# Altium footprint library STM32L011G4U7.PcbLib: 3 footprints
Each footprint in its own frame and in the unit in brackets; x right, y up, seen from the top. Pads: shape width x height; smd on the part's side, far side on the other; paste and mask are expansions set on the pad; w line width, h text height; cw(c..) or ccw(c..) is an arc to the next point about the centre after c.
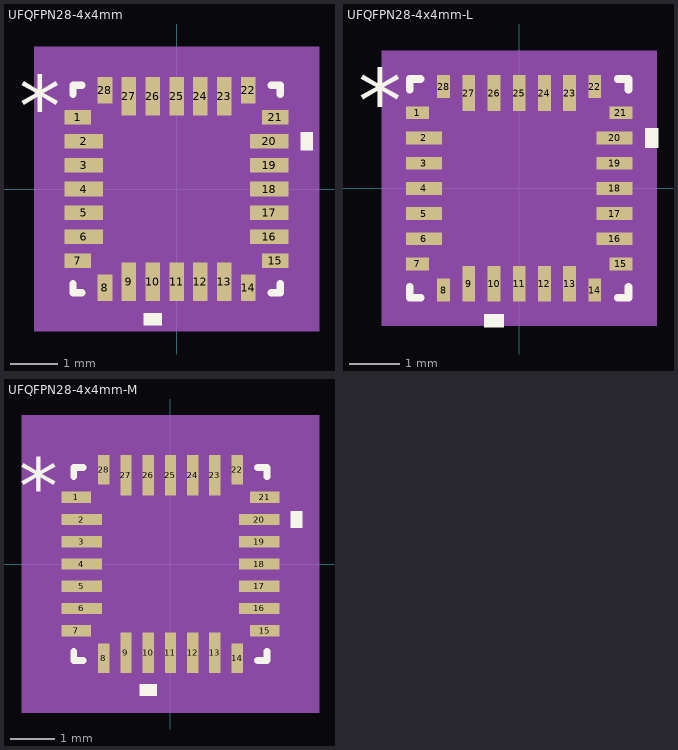
[diagram p0: the footprints below, top view; thin cyan lines are the x and y axes]

## UFQFPN28-4x4mm [mil]
pads (28):
  rect 22x12 smd: 1(-81.5,59.06) 7(-81.5,-59.06) 15(81.5,-59.06) 21(81.5,59.06)
  rect 32x12 smd paste+0 mask+0: 2(-76.5,39.37) 3(-76.5,19.68) 4(-76.5,0) 5(-76.5,-19.68) 6(-76.5,-39.37) 16(76.5,-39.37) 17(76.5,-19.68) 18(76.5,0) 19(76.5,19.68) 20(76.5,39.37)
  rect 12x22 smd: 8(-59.06,-81.5) 14(59.06,-81.5) 22(59.06,81.5) 28(-59.06,81.5)
  rect 12x32 smd paste+0 mask+0: 9(-39.37,-76.5) 10(-19.68,-76.5) 11(0,-76.5) 12(19.68,-76.5) 13(39.37,-76.5) 23(39.37,76.5) 24(19.68,76.5) 25(0,76.5) 26(-19.68,76.5) 27(-39.37,76.5)
Top Overlay:
  region: -12.19,-102.5 -27.18,-102.5 -27.18,-112.5 -12.19,-112.5
  region: 102.5,46.87 112.5,46.87 112.5,31.87 102.5,31.87
  lines w6: -85.5,-78.16 -85.5,-85.5 -78.16,-85.5 ; -85.5,78.16 -85.5,85.5 -78.16,85.5 ; 78.16,-85.5 85.5,-85.5 85.5,-78.16 ; 78.16,85.5 85.5,85.5 85.5,78.16
  text "*" at -130,43.9 h50
Mechanical 5:
  region: 117.5,-117.5 -117.5,-117.5 -117.5,117.5 117.5,117.5
Mechanical 13:
  lines w1: -80.5,30.5 -30.5,80.5 ; -80.5,-80.5 80.5,-80.5 ; -80.5,-80.5 -80.5,80.5 ; -80.5,-80.5 -80.5,-80.5 ; -80.5,-65.06 -80.5,-53.06 ; -80.5,-65.06 -80.5,-53.06 ; -80.5,-65.06 -80.5,-65.06 ; -80.5,-53.06 -80.5,-53.06 ; -80.5,-45.37 -80.5,-33.37 ; -80.5,-45.37 -80.5,-33.37 ; -80.5,-45.37 -80.5,-45.37 ; -80.5,-33.37 -80.5,-33.37 ; -80.5,-25.68 -80.5,-13.69 ; -80.5,-25.68 -80.5,-13.69 ; -80.5,-25.68 -80.5,-25.68 ; -80.5,-13.69 -80.5,-13.69 ; -80.5,-6 -80.5,6 ; -80.5,-6 -80.5,6 ; -80.5,-6 -80.5,-6 ; -80.5,6 -80.5,6 ; -80.5,13.69 -80.5,25.68 ; -80.5,13.69 -80.5,25.68 ; -80.5,13.69 -80.5,13.69 ; -80.5,25.68 -80.5,25.68 ; -80.5,33.37 -80.5,45.37 ; -80.5,33.37 -80.5,45.37 ; -80.5,33.37 -80.5,33.37 ; -80.5,45.37 -80.5,45.37 ; -80.5,53.06 -80.5,65.06 ; -80.5,53.06 -80.5,65.06 ; -80.5,53.06 -80.5,53.06 ; -80.5,65.06 -80.5,65.06 ; -80.5,80.5 80.5,80.5 ; -80.5,80.5 -80.5,80.5 ; -65.06,-80.5 -53.06,-80.5 ; -65.06,-80.5 -65.06,-80.5 ; -65.06,-80.5 -53.06,-80.5 ; -65.06,80.5 -53.06,80.5 ; -65.06,80.5 -53.06,80.5 ; -65.06,80.5 -65.06,80.5 ; -53.06,-80.5 -53.06,-80.5 ; -53.06,80.5 -53.06,80.5 ; -45.37,-80.5 -33.37,-80.5 ; -45.37,-80.5 -45.37,-80.5 ; -45.37,-80.5 -33.37,-80.5 ; -45.37,80.5 -33.37,80.5 ; -45.37,80.5 -33.37,80.5 ; -45.37,80.5 -45.37,80.5 ; -33.37,-80.5 -33.37,-80.5 ; -33.37,80.5 -33.37,80.5 ; -25.68,-80.5 -13.69,-80.5 ; -25.68,-80.5 -25.68,-80.5 ; -25.68,-80.5 -13.69,-80.5 ; -25.68,80.5 -13.69,80.5 ; -25.68,80.5 -13.69,80.5 ; -25.68,80.5 -25.68,80.5 ; -13.69,-80.5 -13.69,-80.5 ; -13.69,80.5 -13.69,80.5 ; -6,-80.5 6,-80.5 ; -6,-80.5 -6,-80.5 ; -6,-80.5 6,-80.5 ; -6,80.5 6,80.5 ; -6,80.5 6,80.5 ; -6,80.5 -6,80.5 ; 6,-80.5 6,-80.5 ; 6,80.5 6,80.5 ; 13.69,-80.5 25.68,-80.5 ; 13.69,-80.5 13.69,-80.5 ; 13.69,-80.5 25.68,-80.5 ; 13.69,80.5 25.68,80.5 ; 13.69,80.5 25.68,80.5 ; 13.69,80.5 13.69,80.5 ; 25.68,-80.5 25.68,-80.5 ; 25.68,80.5 25.68,80.5 ; 33.37,-80.5 45.37,-80.5 ; 33.37,-80.5 33.37,-80.5 ; 33.37,-80.5 45.37,-80.5 ; 33.37,80.5 45.37,80.5 ; 33.37,80.5 45.37,80.5 ; 33.37,80.5 33.37,80.5 ; 45.37,-80.5 45.37,-80.5 ; 45.37,80.5 45.37,80.5 ; 53.06,-80.5 65.06,-80.5 ; 53.06,-80.5 53.06,-80.5 ; 53.06,-80.5 65.06,-80.5 ; 53.06,80.5 65.06,80.5 ; 53.06,80.5 65.06,80.5 ; 53.06,80.5 53.06,80.5 ; 65.06,-80.5 65.06,-80.5 ; 65.06,80.5 65.06,80.5 ; 80.5,-80.5 80.5,-80.5 ; 80.5,-80.5 80.5,80.5 ; 80.5,-65.06 80.5,-53.06 ; 80.5,-65.06 80.5,-65.06 ; 80.5,-65.06 80.5,-53.06 ; 80.5,-53.06 80.5,-53.06 ; 80.5,-45.37 80.5,-33.37 ; 80.5,-45.37 80.5,-45.37 ; 80.5,-45.37 80.5,-33.37 ; 80.5,-33.37 80.5,-33.37 ; 80.5,-25.68 80.5,-13.69 ; 80.5,-25.68 80.5,-25.68 ; 80.5,-25.68 80.5,-13.69 ; 80.5,-13.69 80.5,-13.69 ; 80.5,-6 80.5,6 ; 80.5,-6 80.5,-6 ; 80.5,-6 80.5,6 ; 80.5,6 80.5,6 ; 80.5,13.69 80.5,25.68 ; 80.5,13.69 80.5,13.69 ; 80.5,13.69 80.5,25.68 ; 80.5,25.68 80.5,25.68 ; 80.5,33.37 80.5,45.37 ; 80.5,33.37 80.5,33.37 ; 80.5,33.37 80.5,45.37 ; 80.5,45.37 80.5,45.37 ; 80.5,53.06 80.5,65.06 ; 80.5,53.06 80.5,53.06 ; 80.5,53.06 80.5,65.06 ; 80.5,65.06 80.5,65.06 ; 80.5,80.5 80.5,80.5
  text "*" at -73,43.9 h50
Mechanical 15:
  region: -68.9,-90.5 -90.5,-90.5 -90.5,-68.9 -100.5,-68.9 -100.5,68.9 -90.5,68.9 -90.5,90.5 -68.9,90.5 -68.9,100.5 68.9,100.5 68.9,90.5 90.5,90.5 90.5,68.9 100.5,68.9 100.5,-68.9 90.5,-68.9 90.5,-90.5 68.9,-90.5 68.9,-100.5 -68.9,-100.5
  lines w6: -100.5,-68.9 -90.5,-68.9 -90.5,-90.5 -68.9,-90.5 -68.9,-100.5 68.9,-100.5 68.9,-90.5 90.5,-90.5 90.5,-68.9 100.5,-68.9 100.5,68.9 90.5,68.9 90.5,90.5 68.9,90.5 68.9,100.5 -68.9,100.5 -68.9,90.5 -90.5,90.5 -90.5,68.9 -100.5,68.9 -100.5,-68.9
3D body "UFQFPN28-4x4mm.step": height 24.09, standoff 0, extent -80.51,-80.51 80.51,80.51

## UFQFPN28-4x4mm-L [mil]
pads (28):
  rect 18x10 smd paste+0 mask+0: 1(-79.5,59.06) 7(-79.5,-59.06) 15(79.5,-59.06) 21(79.5,59.06)
  rect 28x10 smd paste+0 mask+0: 2(-74.5,39.37) 3(-74.5,19.68) 4(-74.5,0) 5(-74.5,-19.68) 6(-74.5,-39.37) 16(74.5,-39.37) 17(74.5,-19.68) 18(74.5,0) 19(74.5,19.68) 20(74.5,39.37)
  rect 10x18 smd paste+0 mask+0: 8(-59.06,-79.5) 14(59.06,-79.5) 22(59.06,79.5) 28(-59.06,79.5)
  rect 10x28 smd paste+0 mask+0: 9(-39.37,-74.5) 10(-19.68,-74.5) 11(0,-74.5) 12(19.68,-74.5) 13(39.37,-74.5) 23(39.37,74.5) 24(19.68,74.5) 25(0,74.5) 26(-19.68,74.5) 27(-39.37,74.5)
Top Overlay:
  region: -12.19,-98.5 -27.18,-98.5 -27.18,-108.5 -12.19,-108.5
  region: 98.5,46.87 108.5,46.87 108.5,31.87 98.5,31.87
  lines w6: -85.5,-77.16 -85.5,-85.5 -77.16,-85.5 ; -85.5,77.16 -85.5,85.5 -77.16,85.5 ; 77.16,-85.5 85.5,-85.5 85.5,-77.16 ; 77.16,85.5 85.5,85.5 85.5,77.16
  text "*" at -126,43.9 h50
Mechanical 5:
  region: 107.5,-107.5 -107.5,-107.5 -107.5,107.5 107.5,107.5
Mechanical 13:
  lines w1: -80.5,30.5 -30.5,80.5 ; -80.5,-80.5 80.5,-80.5 ; -80.5,-80.5 -80.5,80.5 ; -80.5,-80.5 -80.5,-80.5 ; -80.5,-65.06 -80.5,-53.06 ; -80.5,-65.06 -80.5,-53.06 ; -80.5,-65.06 -80.5,-65.06 ; -80.5,-53.06 -80.5,-53.06 ; -80.5,-45.37 -80.5,-33.37 ; -80.5,-45.37 -80.5,-33.37 ; -80.5,-45.37 -80.5,-45.37 ; -80.5,-33.37 -80.5,-33.37 ; -80.5,-25.68 -80.5,-13.69 ; -80.5,-25.68 -80.5,-13.69 ; -80.5,-25.68 -80.5,-25.68 ; -80.5,-13.69 -80.5,-13.69 ; -80.5,-6 -80.5,6 ; -80.5,-6 -80.5,6 ; -80.5,-6 -80.5,-6 ; -80.5,6 -80.5,6 ; -80.5,13.69 -80.5,25.68 ; -80.5,13.69 -80.5,25.68 ; -80.5,13.69 -80.5,13.69 ; -80.5,25.68 -80.5,25.68 ; -80.5,33.37 -80.5,45.37 ; -80.5,33.37 -80.5,45.37 ; -80.5,33.37 -80.5,33.37 ; -80.5,45.37 -80.5,45.37 ; -80.5,53.06 -80.5,65.06 ; -80.5,53.06 -80.5,65.06 ; -80.5,53.06 -80.5,53.06 ; -80.5,65.06 -80.5,65.06 ; -80.5,80.5 80.5,80.5 ; -80.5,80.5 -80.5,80.5 ; -65.06,-80.5 -53.06,-80.5 ; -65.06,-80.5 -65.06,-80.5 ; -65.06,-80.5 -53.06,-80.5 ; -65.06,80.5 -53.06,80.5 ; -65.06,80.5 -53.06,80.5 ; -65.06,80.5 -65.06,80.5 ; -53.06,-80.5 -53.06,-80.5 ; -53.06,80.5 -53.06,80.5 ; -45.37,-80.5 -33.37,-80.5 ; -45.37,-80.5 -45.37,-80.5 ; -45.37,-80.5 -33.37,-80.5 ; -45.37,80.5 -33.37,80.5 ; -45.37,80.5 -33.37,80.5 ; -45.37,80.5 -45.37,80.5 ; -33.37,-80.5 -33.37,-80.5 ; -33.37,80.5 -33.37,80.5 ; -25.68,-80.5 -13.69,-80.5 ; -25.68,-80.5 -25.68,-80.5 ; -25.68,-80.5 -13.69,-80.5 ; -25.68,80.5 -13.69,80.5 ; -25.68,80.5 -13.69,80.5 ; -25.68,80.5 -25.68,80.5 ; -13.69,-80.5 -13.69,-80.5 ; -13.69,80.5 -13.69,80.5 ; -6,-80.5 6,-80.5 ; -6,-80.5 -6,-80.5 ; -6,-80.5 6,-80.5 ; -6,80.5 6,80.5 ; -6,80.5 6,80.5 ; -6,80.5 -6,80.5 ; 6,-80.5 6,-80.5 ; 6,80.5 6,80.5 ; 13.69,-80.5 25.68,-80.5 ; 13.69,-80.5 13.69,-80.5 ; 13.69,-80.5 25.68,-80.5 ; 13.69,80.5 25.68,80.5 ; 13.69,80.5 25.68,80.5 ; 13.69,80.5 13.69,80.5 ; 25.68,-80.5 25.68,-80.5 ; 25.68,80.5 25.68,80.5 ; 33.37,-80.5 45.37,-80.5 ; 33.37,-80.5 33.37,-80.5 ; 33.37,-80.5 45.37,-80.5 ; 33.37,80.5 45.37,80.5 ; 33.37,80.5 45.37,80.5 ; 33.37,80.5 33.37,80.5 ; 45.37,-80.5 45.37,-80.5 ; 45.37,80.5 45.37,80.5 ; 53.06,-80.5 65.06,-80.5 ; 53.06,-80.5 53.06,-80.5 ; 53.06,-80.5 65.06,-80.5 ; 53.06,80.5 65.06,80.5 ; 53.06,80.5 65.06,80.5 ; 53.06,80.5 53.06,80.5 ; 65.06,-80.5 65.06,-80.5 ; 65.06,80.5 65.06,80.5 ; 80.5,-80.5 80.5,-80.5 ; 80.5,-80.5 80.5,80.5 ; 80.5,-65.06 80.5,-53.06 ; 80.5,-65.06 80.5,-65.06 ; 80.5,-65.06 80.5,-53.06 ; 80.5,-53.06 80.5,-53.06 ; 80.5,-45.37 80.5,-33.37 ; 80.5,-45.37 80.5,-45.37 ; 80.5,-45.37 80.5,-33.37 ; 80.5,-33.37 80.5,-33.37 ; 80.5,-25.68 80.5,-13.69 ; 80.5,-25.68 80.5,-25.68 ; 80.5,-25.68 80.5,-13.69 ; 80.5,-13.69 80.5,-13.69 ; 80.5,-6 80.5,6 ; 80.5,-6 80.5,-6 ; 80.5,-6 80.5,6 ; 80.5,6 80.5,6 ; 80.5,13.69 80.5,25.68 ; 80.5,13.69 80.5,13.69 ; 80.5,13.69 80.5,25.68 ; 80.5,25.68 80.5,25.68 ; 80.5,33.37 80.5,45.37 ; 80.5,33.37 80.5,33.37 ; 80.5,33.37 80.5,45.37 ; 80.5,45.37 80.5,45.37 ; 80.5,53.06 80.5,65.06 ; 80.5,53.06 80.5,53.06 ; 80.5,53.06 80.5,65.06 ; 80.5,65.06 80.5,65.06 ; 80.5,80.5 80.5,80.5
  text "*" at -73,43.9 h50
Mechanical 15:
  region: -68.9,-84.5 -84.5,-84.5 -84.5,-68.9 -92.5,-68.9 -92.5,68.9 -84.5,68.9 -84.5,84.5 -68.9,84.5 -68.9,92.5 68.9,92.5 68.9,84.5 84.5,84.5 84.5,68.9 92.5,68.9 92.5,-68.9 84.5,-68.9 84.5,-84.5 68.9,-84.5 68.9,-92.5 -68.9,-92.5
  lines w6: -92.5,-68.9 -84.5,-68.9 -84.5,-84.5 -68.9,-84.5 -68.9,-92.5 68.9,-92.5 68.9,-84.5 84.5,-84.5 84.5,-68.9 92.5,-68.9 92.5,68.9 84.5,68.9 84.5,84.5 68.9,84.5 68.9,92.5 -68.9,92.5 -68.9,84.5 -84.5,84.5 -84.5,68.9 -92.5,68.9 -92.5,-68.9
3D body "UFQFPN28-4x4mm.step": height 24.09, standoff 0, extent -80.51,-80.51 80.51,80.51

## UFQFPN28-4x4mm-M [mil]
pads (28):
  rect 26x10 smd paste+0 mask+0: 1(-83.5,59.06) 7(-83.5,-59.06) 15(83.5,-59.06) 21(83.5,59.06)
  rect 36x10 smd paste+0 mask+0: 2(-78.5,39.37) 3(-78.5,19.68) 4(-78.5,0) 5(-78.5,-19.68) 6(-78.5,-39.37) 16(78.5,-39.37) 17(78.5,-19.68) 18(78.5,0) 19(78.5,19.68) 20(78.5,39.37)
  rect 10x26 smd paste+0 mask+0: 8(-59.06,-83.5) 14(59.06,-83.5) 22(59.06,83.5) 28(-59.06,83.5)
  rect 10x36 smd paste+0 mask+0: 9(-39.37,-78.5) 10(-19.68,-78.5) 11(0,-78.5) 12(19.68,-78.5) 13(39.37,-78.5) 23(39.37,78.5) 24(19.68,78.5) 25(0,78.5) 26(-19.68,78.5) 27(-39.37,78.5)
Top Overlay:
  region: -12.19,-106.5 -27.18,-106.5 -27.18,-116.5 -12.19,-116.5
  region: 106.5,46.87 116.5,46.87 116.5,31.87 106.5,31.87
  lines w6: -85.5,-77.16 -85.5,-85.5 -77.16,-85.5 ; -85.5,77.16 -85.5,85.5 -77.16,85.5 ; 77.16,-85.5 85.5,-85.5 85.5,-77.16 ; 77.16,85.5 85.5,85.5 85.5,77.16
  text "*" at -134,43.9 h50
Mechanical 5:
  region: 131.5,-131.5 -131.5,-131.5 -131.5,131.5 131.5,131.5
Mechanical 13:
  lines w1: -80.5,30.5 -30.5,80.5 ; -80.5,-80.5 80.5,-80.5 ; -80.5,-80.5 -80.5,80.5 ; -80.5,-80.5 -80.5,-80.5 ; -80.5,-65.06 -80.5,-53.06 ; -80.5,-65.06 -80.5,-53.06 ; -80.5,-65.06 -80.5,-65.06 ; -80.5,-53.06 -80.5,-53.06 ; -80.5,-45.37 -80.5,-33.37 ; -80.5,-45.37 -80.5,-33.37 ; -80.5,-45.37 -80.5,-45.37 ; -80.5,-33.37 -80.5,-33.37 ; -80.5,-25.68 -80.5,-13.69 ; -80.5,-25.68 -80.5,-13.69 ; -80.5,-25.68 -80.5,-25.68 ; -80.5,-13.69 -80.5,-13.69 ; -80.5,-6 -80.5,6 ; -80.5,-6 -80.5,6 ; -80.5,-6 -80.5,-6 ; -80.5,6 -80.5,6 ; -80.5,13.69 -80.5,25.68 ; -80.5,13.69 -80.5,25.68 ; -80.5,13.69 -80.5,13.69 ; -80.5,25.68 -80.5,25.68 ; -80.5,33.37 -80.5,45.37 ; -80.5,33.37 -80.5,45.37 ; -80.5,33.37 -80.5,33.37 ; -80.5,45.37 -80.5,45.37 ; -80.5,53.06 -80.5,65.06 ; -80.5,53.06 -80.5,65.06 ; -80.5,53.06 -80.5,53.06 ; -80.5,65.06 -80.5,65.06 ; -80.5,80.5 80.5,80.5 ; -80.5,80.5 -80.5,80.5 ; -65.06,-80.5 -53.06,-80.5 ; -65.06,-80.5 -65.06,-80.5 ; -65.06,-80.5 -53.06,-80.5 ; -65.06,80.5 -53.06,80.5 ; -65.06,80.5 -53.06,80.5 ; -65.06,80.5 -65.06,80.5 ; -53.06,-80.5 -53.06,-80.5 ; -53.06,80.5 -53.06,80.5 ; -45.37,-80.5 -33.37,-80.5 ; -45.37,-80.5 -45.37,-80.5 ; -45.37,-80.5 -33.37,-80.5 ; -45.37,80.5 -33.37,80.5 ; -45.37,80.5 -33.37,80.5 ; -45.37,80.5 -45.37,80.5 ; -33.37,-80.5 -33.37,-80.5 ; -33.37,80.5 -33.37,80.5 ; -25.68,-80.5 -13.69,-80.5 ; -25.68,-80.5 -25.68,-80.5 ; -25.68,-80.5 -13.69,-80.5 ; -25.68,80.5 -13.69,80.5 ; -25.68,80.5 -13.69,80.5 ; -25.68,80.5 -25.68,80.5 ; -13.69,-80.5 -13.69,-80.5 ; -13.69,80.5 -13.69,80.5 ; -6,-80.5 6,-80.5 ; -6,-80.5 -6,-80.5 ; -6,-80.5 6,-80.5 ; -6,80.5 6,80.5 ; -6,80.5 6,80.5 ; -6,80.5 -6,80.5 ; 6,-80.5 6,-80.5 ; 6,80.5 6,80.5 ; 13.69,-80.5 25.68,-80.5 ; 13.69,-80.5 13.69,-80.5 ; 13.69,-80.5 25.68,-80.5 ; 13.69,80.5 25.68,80.5 ; 13.69,80.5 25.68,80.5 ; 13.69,80.5 13.69,80.5 ; 25.68,-80.5 25.68,-80.5 ; 25.68,80.5 25.68,80.5 ; 33.37,-80.5 45.37,-80.5 ; 33.37,-80.5 33.37,-80.5 ; 33.37,-80.5 45.37,-80.5 ; 33.37,80.5 45.37,80.5 ; 33.37,80.5 45.37,80.5 ; 33.37,80.5 33.37,80.5 ; 45.37,-80.5 45.37,-80.5 ; 45.37,80.5 45.37,80.5 ; 53.06,-80.5 65.06,-80.5 ; 53.06,-80.5 53.06,-80.5 ; 53.06,-80.5 65.06,-80.5 ; 53.06,80.5 65.06,80.5 ; 53.06,80.5 65.06,80.5 ; 53.06,80.5 53.06,80.5 ; 65.06,-80.5 65.06,-80.5 ; 65.06,80.5 65.06,80.5 ; 80.5,-80.5 80.5,-80.5 ; 80.5,-80.5 80.5,80.5 ; 80.5,-65.06 80.5,-53.06 ; 80.5,-65.06 80.5,-65.06 ; 80.5,-65.06 80.5,-53.06 ; 80.5,-53.06 80.5,-53.06 ; 80.5,-45.37 80.5,-33.37 ; 80.5,-45.37 80.5,-45.37 ; 80.5,-45.37 80.5,-33.37 ; 80.5,-33.37 80.5,-33.37 ; 80.5,-25.68 80.5,-13.69 ; 80.5,-25.68 80.5,-25.68 ; 80.5,-25.68 80.5,-13.69 ; 80.5,-13.69 80.5,-13.69 ; 80.5,-6 80.5,6 ; 80.5,-6 80.5,-6 ; 80.5,-6 80.5,6 ; 80.5,6 80.5,6 ; 80.5,13.69 80.5,25.68 ; 80.5,13.69 80.5,13.69 ; 80.5,13.69 80.5,25.68 ; 80.5,25.68 80.5,25.68 ; 80.5,33.37 80.5,45.37 ; 80.5,33.37 80.5,33.37 ; 80.5,33.37 80.5,45.37 ; 80.5,45.37 80.5,45.37 ; 80.5,53.06 80.5,65.06 ; 80.5,53.06 80.5,53.06 ; 80.5,53.06 80.5,65.06 ; 80.5,65.06 80.5,65.06 ; 80.5,80.5 80.5,80.5
  text "*" at -73,43.9 h50
Mechanical 15:
  region: -68.9,-100.5 -100.5,-100.5 -100.5,-68.9 -116.5,-68.9 -116.5,68.9 -100.5,68.9 -100.5,100.5 -68.9,100.5 -68.9,116.5 68.9,116.5 68.9,100.5 100.5,100.5 100.5,68.9 116.5,68.9 116.5,-68.9 100.5,-68.9 100.5,-100.5 68.9,-100.5 68.9,-116.5 -68.9,-116.5
  lines w6: -116.5,-68.9 -100.5,-68.9 -100.5,-100.5 -68.9,-100.5 -68.9,-116.5 68.9,-116.5 68.9,-100.5 100.5,-100.5 100.5,-68.9 116.5,-68.9 116.5,68.9 100.5,68.9 100.5,100.5 68.9,100.5 68.9,116.5 -68.9,116.5 -68.9,100.5 -100.5,100.5 -100.5,68.9 -116.5,68.9 -116.5,-68.9
3D body "UFQFPN28-4x4mm.step": height 24.09, standoff 0, extent -80.51,-80.51 80.51,80.51